# EAGLE library part 615008160721 (library USB_c_conn)
WR-MJ Modular Jack THT 47,5° Shielded 8P8C MATERIAL PROPERTIES Insulator Material PA9T Insulator Flammability Rating UL94 V-0 Insulator Color Black Contact Material Copper Alloy Contact Plating 6u' on contact area Contact Type Stamped GENERAL INFORMATION Operating Temperature -40 up to +85 °C ELECTRICAL PROPERTIES Working Voltage 125 V (AC) Contact Resistance 35 mΩ RISO 1000 MΩ PACKAGING PROPERTIES Packaging Tray <https://katalog.we-online.com/media/images/v2/o161627v209%20Family_WR-MJTH_615008160721.jpg> Details see: https://katalog.we-online.com/en/em/MJ_THT_47_5-DEGREE_8P8C_SHIELDED Created by Ella Wu 2019-11-05 2019(C) Wurth Elektronik
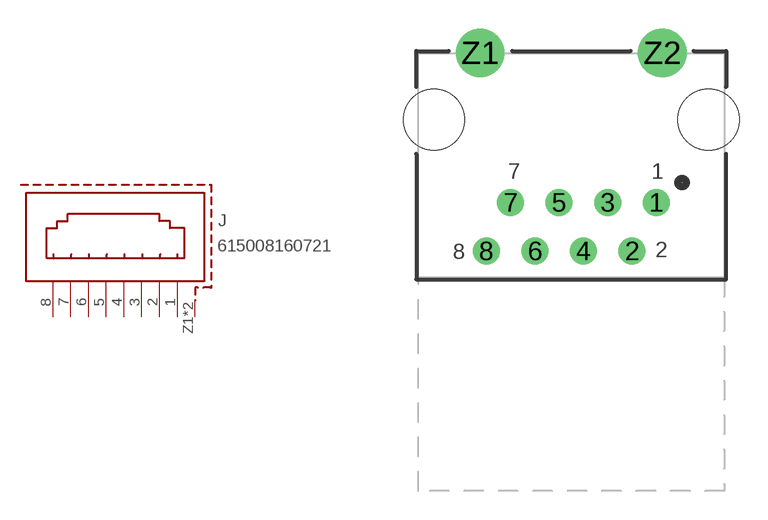
[diagram p203: symbol with the pads of 615008160721; footprint 615008160721]

Designator prefix J

## 615008160721  [615008160721]
1  1  pas
2  2  pas
3  3  pas
4  4  pas
5  5  pas
6  6  pas
7  7  pas
8  8  pas
Z1  SHIELD  pas
Z2  SHIELD  pas

## Footprint 615008160721 (pad centres in mm)
drill 0.9: 1 4.445,-4.34; 2 3.175,-6.88; 3 1.905,-4.34; 4 0.635,-6.88; 5 -0.635,-4.34; 6 -1.905,-6.88; 7 -3.175,-4.34; 8 -4.445,-6.88
drill 1.7: Z1 -4.765,3.48; Z2 4.765,3.48
hole 3.2 at -7.175,0
hole 3.2 at 7.175,0